# EAGLE library part ATTINY461V-10MUR (library PAS)
ATtiny26
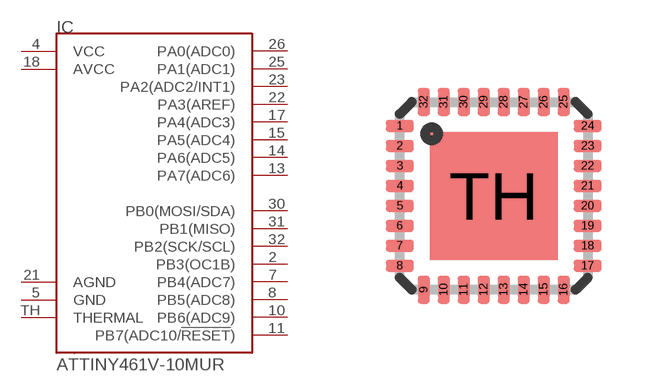
[diagram p17: symbol with the pads of MLF32-TH; footprint MLF32-TH]

Designator prefix IC

## ATTINY461V-10MUR  [MLF32-TH]
2  PB3(OC1B)  pas
4  VCC  pas
5  GND  pas
7  PB4(ADC7)  pas
8  PB5(ADC8)  pas
10  PB6(ADC9)  pas
11  PB7(ADC10/!RESET!)  pas
13  PA7(ADC6)  pas
14  PA6(ADC5)  pas
15  PA5(ADC4)  pas
17  PA4(ADC3)  pas
18  AVCC  pas
21  AGND  pas
22  PA3(AREF)  pas
23  PA2(ADC2/INT1)  pas
25  PA1(ADC1)  pas
26  PA0(ADC0)  pas
30  PB0(MOSI/SDA)  pas
31  PB1(MISO)  pas
32  PB2(SCK/SCL)  pas
TH  THERMAL  pas

## Footprint MLF32-TH (pad centres in mm)
32M1-A Micro Lead Frame package (MLF)
smd 0.7 x 0.3: 1 -2.35,1.75; 2 -2.35,1.25; 3 -2.35,0.75; 4 -2.35,0.25; 5 -2.35,-0.25; 6 -2.35,-0.75; 7 -2.35,-1.25; 8 -2.35,-1.75; 17 2.35,-1.75; 18 2.35,-1.25; 19 2.35,-0.75; 20 2.35,-0.25; 21 2.35,0.25; 22 2.35,0.75; 23 2.35,1.25; 24 2.35,1.75
smd 0.3 x 0.7: 9 -1.75,-2.35; 10 -1.25,-2.35; 11 -0.75,-2.35; 12 -0.25,-2.35; 13 0.25,-2.35; 14 0.75,-2.35; 15 1.25,-2.35; 16 1.75,-2.35; 25 1.75,2.35; 26 1.25,2.35; 27 0.75,2.35; 28 0.25,2.35; 29 -0.25,2.35; 30 -0.75,2.35; 31 -1.25,2.35; 32 -1.75,2.35
smd 3.2 x 3.2: TH 0,0